# Altium footprint library Microchps_body_All.PcbLib: 2 footprints
Each footprint in its own frame and in the unit in brackets; x right, y up, seen from the top. Pads: shape width x height; smd on the part's side, far side on the other; paste and mask are expansions set on the pad; w line width, h text height; cw(c..) or ccw(c..) is an arc to the next point about the centre after c.
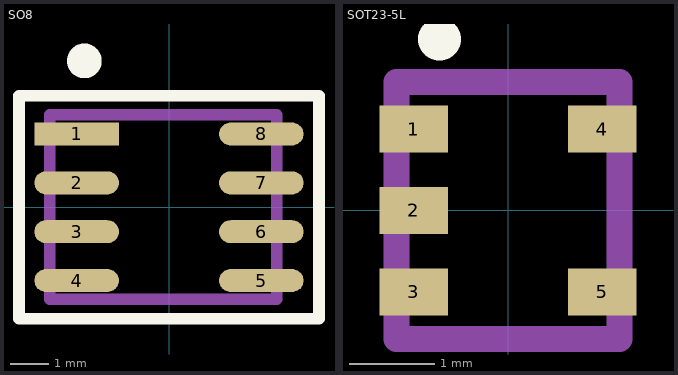
[diagram p0: the footprints below, top view; thin cyan lines are the x and y axes]

## SO8 [mm]
height 1.75
pads (8):
  rect 2.2x0.6 smd: 1(-2.4,1.905)
  oval 2.2x0.6 smd: 2(-2.4,0.635) 3(-2.4,-0.635) 4(-2.4,-1.905) 5(2.4,-1.905) 6(2.4,-0.635) 7(2.4,0.635) 8(2.4,1.905)
Top Overlay:
  circle w0.6: c-2.2,3.805 r0.15
  lines w0.3: -3.9,-2.895 3.9,-2.895 3.9,2.905 -3.4,2.905 -3.9,2.905 -3.9,-2.895
Mechanical 15:
  lines w0.3: -3.1,-2.395 -3.1,2.405 2.8,2.405 2.8,-2.395 -3.1,-2.395
3D body "SO_8.STEP": height 1.6, standoff 0, extent -3.122,-2.45 2.868,2.45

## SOT23-5L [mm]
pads (5):
  rect 0.8x0.55 smd: 1(-1.1,0.95) 2(-1.1,0) 3(-1.1,-0.95) 4(1.1,0.95) 5(1.1,-0.95)
Top Overlay:
  circle w0.5: c-0.8,2 r0.001
Mechanical 15:
  lines w0.3: -1.3,-1.5 1.3,-1.5 1.3,1.5 -1.3,1.5 -1.3,-1.5
3D body "SW3DPS-SOT-23-5-DEFAULT.STEP": height 1.1, standoff 0, extent -1.25,-1.5 1.25,1.5